# EAGLE library part HARWIN_M80-5000442 (library GaN_Fet_ESC_V0.2)
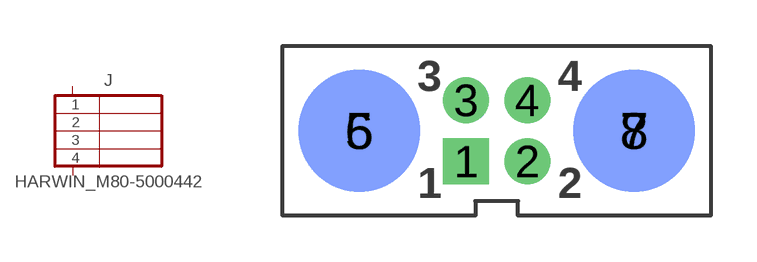
[diagram p2: symbol with the pads of HARWIN_M80-5000442; footprint HARWIN_M80-5000442]

Designator prefix J

## HARWIN_M80-5000442  [HARWIN_M80-5000442]
1  1
2  2
3  3
4  4
5  P$1
6  P$1
7  P$2
8  P$2

## Footprint HARWIN_M80-5000442 (pad centres in mm)
drill 0.65 pad 1.5 square: 1 -1,-1
drill 0.65 pad 1.5: 2 1,-1; 3 -1,1; 4 1,1
drill 2.2: 5 -4.5,0; 7 4.5,0
smd 4 x 4 bottom: 6 -4.5,0; 8 4.5,0